# Altium schematic symbol library Components.SchLib: 8 symbols
Pins are listed as number, name and electrical type; pins without a type are passive.

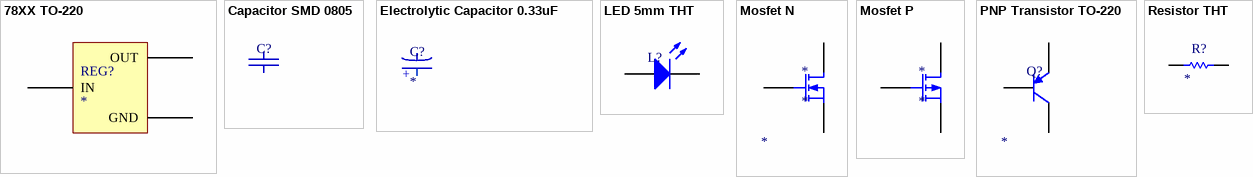
[diagram p0: symbols 78XX TO-220 to Resistor THT]

## 78XX TO-220
designator REG?
footprint TO-220 (TO-220 coupling)
pins: 1 IN, 2 GND, 3 OUT

## Capacitor SMD 0805
designator C?  (value not drawn)
footprint SMD Capacitor
pins: 1, 2

## Electrolytic Capacitor 0.33uF
designator C?
footprint Eletrolytic Capacitor 5x5mm
pins: 1, 2
text: +

## LED 5mm THT
designator L?  (value not drawn)
Color: *
footprint LED THT
pins: 1 A, 2 K

## Mosfet N
designator *
Model: *
footprint TO-220 (TO-220 coupling)
footprint TO-252-3
pins: 1 S, 2 G, 3 D

## Mosfet P
designator *
Model: *
footprint TO-220 (TO-220 coupling)
footprint TO-252-3
pins: 1 G, 2 D, 3 S

## PNP Transistor TO-220
designator Q?
Model: *
footprint TO-220 (TO-220 coupling)
pins: 1 E, 2 C, 3 B

## Resistor THT
designator R?
Value: *
footprint RESISTOR THT 5mm
pins: 1, 2